# EAGLE library part STM32F405RG (library xnemo)
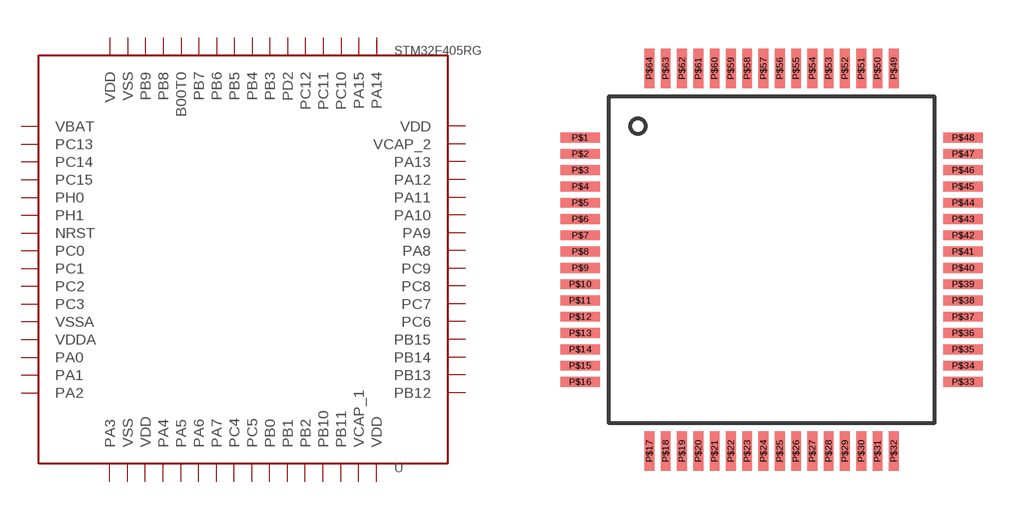
[diagram p1: symbol with the pads of ST_LQFP64; footprint ST_LQFP64]

Designator prefix U

## STM32F405RG  [ST_LQFP64]
P$1  VBAT
P$2  PC13
P$3  PC14
P$4  PC15
P$5  PH0
P$6  PH1
P$7  NRST
P$8  PC0
P$9  PC1
P$10  PC2
P$11  PC3
P$12  VSSA
P$13  VDDA
P$14  PA0
P$15  PA1
P$16  PA2
P$17  PA3
P$18  VSS
P$19  VDD
P$20  PA4
P$21  PA5
P$22  PA6
P$23  PA7
P$24  PC4
P$25  PC5
P$26  PB0
P$27  PB1
P$28  PB2
P$29  PB10
P$30  PB11
P$31  VCAP_1
P$32  VDD
P$33  PB12
P$34  PB13
P$35  PB14
P$36  PB15
P$37  PC6
P$38  PC7
P$39  PC8
P$40  PC9
P$41  PA8
P$42  PA9
P$43  PA10
P$44  PA11
P$45  PA12
P$46  PA13
P$47  VCAP_2
P$48  VDD
P$49  PA14
P$50  PA15
P$51  PC10
P$52  PC11
P$53  PC12
P$54  PD2
P$55  PB3
P$56  PB4
P$57  PB5
P$58  PB6
P$59  PB7
P$60  B00T0
P$61  PB8
P$62  PB9
P$63  VSS
P$64  VDD

## Footprint ST_LQFP64 (pad centres in mm)
smd 1.2 x 0.3: P$1 -5.875,3.75; P$2 -5.875,3.25; P$3 -5.875,2.75; P$4 -5.875,2.25; P$5 -5.875,1.75; P$6 -5.875,1.25; P$7 -5.875,0.75; P$8 -5.875,0.25; P$9 -5.875,-0.25; P$10 -5.875,-0.75; P$11 -5.875,-1.25; P$12 -5.875,-1.75; P$13 -5.875,-2.25; P$14 -5.875,-2.75; P$15 -5.875,-3.25; P$16 -5.875,-3.75; P$33 5.875,-3.75; P$34 5.875,-3.25; P$35 5.875,-2.75; P$36 5.875,-2.25; P$37 5.875,-1.75; P$38 5.875,-1.25; P$39 5.875,-0.75; P$40 5.875,-0.25; P$41 5.875,0.25; P$42 5.875,0.75; P$43 5.875,1.25; P$44 5.875,1.75; P$45 5.875,2.25; P$46 5.875,2.75; P$47 5.875,3.25; P$48 5.875,3.75
smd 0.3 x 1.2: P$17 -3.75,-5.875; P$18 -3.25,-5.875; P$19 -2.75,-5.875; P$20 -2.25,-5.875; P$21 -1.75,-5.875; P$22 -1.25,-5.875; P$23 -0.75,-5.875; P$24 -0.25,-5.875; P$25 0.25,-5.875; P$26 0.75,-5.875; P$27 1.25,-5.875; P$28 1.75,-5.875; P$29 2.25,-5.875; P$30 2.75,-5.875; P$31 3.25,-5.875; P$32 3.75,-5.875; P$49 3.75,5.875; P$50 3.25,5.875; P$51 2.75,5.875; P$52 2.25,5.875; P$53 1.75,5.875; P$54 1.25,5.875; P$55 0.75,5.875; P$56 0.25,5.875; P$57 -0.25,5.875; P$58 -0.75,5.875; P$59 -1.25,5.875; P$60 -1.75,5.875; P$61 -2.25,5.875; P$62 -2.75,5.875; P$63 -3.25,5.875; P$64 -3.75,5.875